# Altium footprint library G20.PcbLib: 1 footprints
Each footprint in its own frame and in the unit in brackets; x right, y up, seen from the top. Pads: shape width x height; smd on the part's side, far side on the other; paste and mask are expansions set on the pad; w line width, h text height; cw(c..) or ccw(c..) is an arc to the next point about the centre after c.
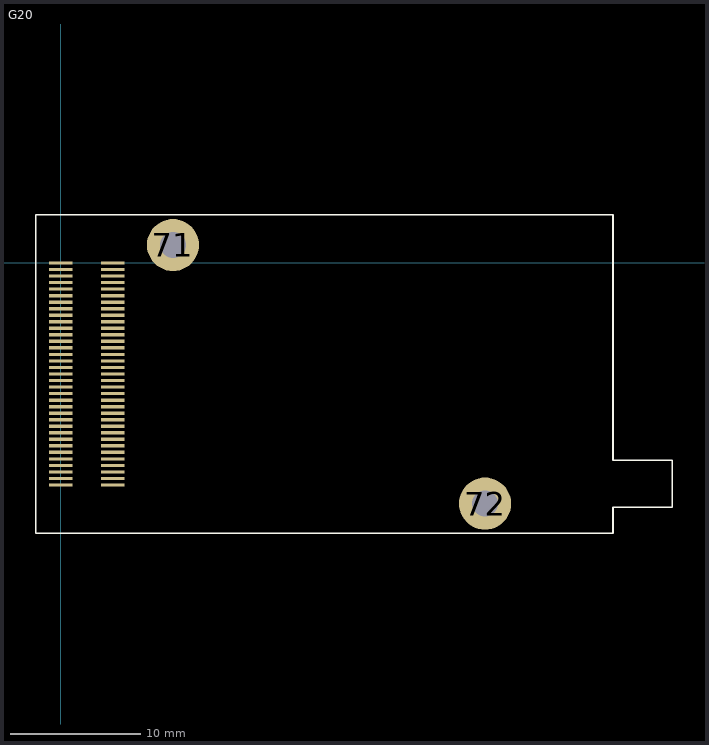
[diagram p0: the footprint, top view; thin cyan lines are the x and y axes]

## G20 [mm]
pads (72):
  rect 1.8x0.25 smd: 1(0,0) 2(4,0) 3(0,-0.5) 4(4,-0.5) 5(0,-1) 6(4,-1) 7(0,-1.5) 8(4,-1.5) 9(0,-2) 10(4,-2) 11(0,-2.5) 12(4,-2.5) 13(0,-3) 14(4,-3) 15(0,-3.5) 16(4,-3.5) 17(0,-4) 18(4,-4) 19(0,-4.5) 20(4,-4.5) 21(0,-5) 22(4,-5) 23(0,-5.5) 24(4,-5.5) 25(0,-6) 26(4,-6) 27(0,-6.5) 28(4,-6.5) 29(0,-7) 30(4,-7) 31(0,-7.5) 32(4,-7.5) 33(0,-8) 34(4,-8) 35(0,-8.5) 36(4,-8.5) 37(0,-9) 38(4,-9) 39(0,-9.5) 40(4,-9.5) 41(0,-10) 42(4,-10) 43(0,-10.5) 44(4,-10.5) 45(0,-11) 46(4,-11) 47(0,-11.5) 48(4,-11.5) 49(0,-12) 50(4,-12) 51(0,-12.5) 52(4,-12.5) 53(0,-13) 54(4,-13) 55(0,-13.5) 56(4,-13.5) 57(0,-14) 58(4,-14) 59(0,-14.5) 60(4,-14.5) 61(0,-15) 62(4,-15) 63(0,-15.5) 64(4,-15.5) 65(0,-16) 66(4,-16) 67(0,-16.5) 68(4,-16.5) 69(0,-17) 70(4,-17)
  round 4 hole 2: 71(8.6,1.375) 72(32.5,-18.425)
Top Overlay:
  lines w0.127: -1.9,-20.7 42.3,-20.7 42.3,-18.7 46.83,-18.7 46.83,-15.1 42.3,-15.1 42.3,3.7 -1.9,3.7 -1.9,-20.7
3D body: height 2.9, standoff 0, extent 30.768,-20.17 34.254,-16.677
3D body: height 0, standoff -1.65, extent 31.498,-19.423 33.491,-17.427
3D body: height 0, standoff -1.65, extent 7.598,0.377 9.591,2.373
3D body: height 2.9, standoff 0, extent 6.867,-0.37 10.354,3.123
3D body: height 2.28, standoff -0.03, extent -0.701,-19.154 4.699,2.146